# Altium footprint library Connectors.PcbLib: 2 footprints
Each footprint in its own frame and in the unit in brackets; x right, y up, seen from the top. Pads: shape width x height; smd on the part's side, far side on the other; paste and mask are expansions set on the pad; w line width, h text height; cw(c..) or ccw(c..) is an arc to the next point about the centre after c.
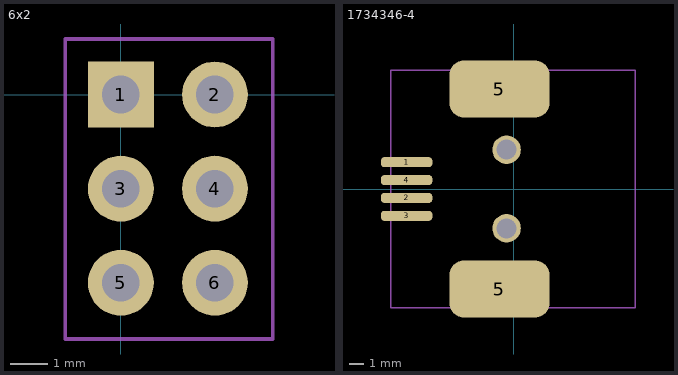
[diagram p0: the footprints below, top view; thin cyan lines are the x and y axes]

## 6x2 [mil]
pads (6):
  rect 70x70 hole 40 paste-3897.64: 1(0,0)
  round 70 hole 40 paste-3897.64: 2(100,0) 3(0,-100) 4(100,-100) 5(0,-200) 6(100,-200)
Assembly:
  lines w3.94: -59.06,-259.84 161.42,-259.84 161.42,-236.22 161.42,59.06 -59.06,59.06 -59.06,-259.84
  text ".Designator" at 62.99,-224.41 h59.06
3D body "PR(E,P)C003DAAN-RC.stp": height 329.79, standoff -117.83, extent -50,-250 150,50

## 1734346-4 [mm]
pads (8):
  rrect70% 3.6x0.7 smd paste-0.08 mask+0.092: 1(-7.5,1.875) 2(-7.5,-0.625) 3(-7.5,-1.875) 4(-7.5,0.625)
  rrect50% 7x4 smd paste-0.4: 5(-1,-7) 5(-1,7)
  round 2 hole 1.4 paste-99: ""(-0.5,-2.75) ""(-0.5,2.75)
Assembly:
  lines w0.1: -8.6,-8.3 8.5,-8.3 8.5,8.3 -8.6,8.3 -8.6,-8.3
  text ".Designator" at -3.5,0 h1.1
3D body "c-1734346-4-c-3d.stp": height 11.31, standoff -1.11, extent -8.6,-8.25 8.5,8.25